# Altium schematic symbol library Motor_driver.SchLib: 13 symbols
Pins are listed as number, name and electrical type; pins without a type are passive.

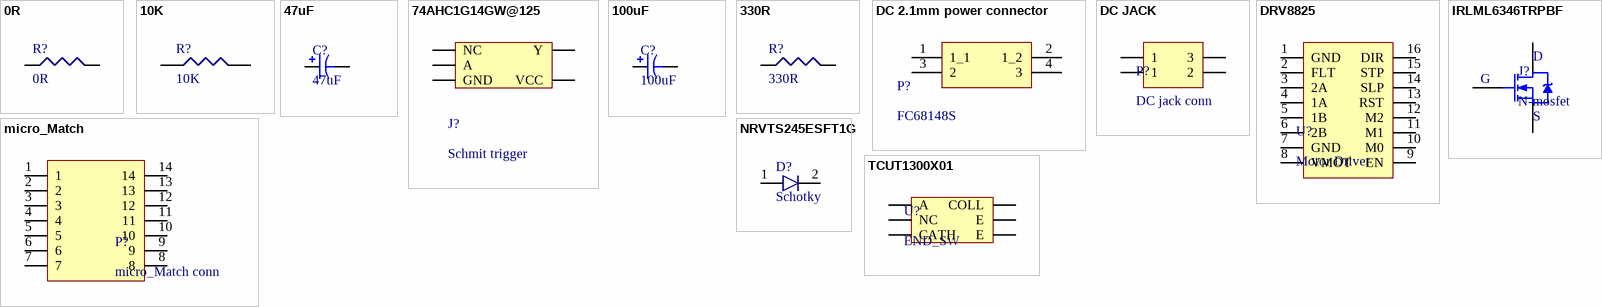
[diagram p0: symbols 0R to TCUT1300X01]

## 0R
designator R?
RES SMD 0.0OHM JUMPER 1/20W 0201; Manufacturer: Vishay; Manufacturer Part Number: CRCW02010000Z0ED; Brand: Vishay / Dale; Resistance: 0 Ohms; Unit Weight: 0.000006 oz; Product Category: Thick Film Resistors - SMD; RoHS: Details; Case Code - in: 0201; Case Code - mm: 0603; Operating Temperature Range: - 55 C to + 155 C; Series: CRCW; Height: 0.23 mm; Length: 0.6 mm; Package / Case: 0201 (0603 metric); Packaging: Reel; Product: Thick Film Resistors Zero-Ohm; Factory Pack Quantity: 10000; Termination Style: SMD/SMT; Width: 0.3 mm; ComponentLink1URL: https://datasheet.ciiva.com/2471/crcw0201e3-2471712.pdf; ComponentLink1Description: https://datasheet.ciiva.com/2471/crcw0201e3-2471712.pdf; ComponentLink2URL: https://datasheet.ciiva.com/2471/crcw0201e3-2471713.pdf; ComponentLink2Description: https://datasheet.ciiva.com/2471/crcw0201e3-2471713.pdf; ComponentLink3URL: https://datasheet.ciiva.com/7841/1719906-7841430.pdf; ComponentLink3Description: https://datasheet.ciiva.com/7841/1719906-7841430.pdf; ComponentLink4URL: https://datasheet.ciiva.com/7841/1719906-7841431.pdf; ComponentLink4Description: https://datasheet.ciiva.com/7841/1719906-7841431.pdf; ComponentLink5URL: https://datasheet.ciiva.com/22665/1847332-22665688.pdf; ComponentLink5Description: https://datasheet.ciiva.com/22665/1847332-22665688.pdf; ComponentLink6URL: https://datasheet.ciiva.com/16757/70202042-16757849.pdf; ComponentLink6Description: https://datasheet.ciiva.com/16757/70202042-16757849.pdf; ComponentLink7URL: https://datasheet.ciiva.com/16436/crcw0201e3-16436237.pdf; ComponentLink7Description: https://datasheet.ciiva.com/16436/crcw0201e3-16436237.pdf; ComponentLink8URL: https://datasheet.ciiva.com/2471/crcw0201e3-2471711.pdf; ComponentLink8Description: https://datasheet.ciiva.com/2471/crcw0201e3-2471711.pdf
footprint 0603res
pins: 1, 2

## 10K
designator R?
RES SMD 10K OHM 1% 1/20W 0201; Manufacturer: Vishay; Manufacturer Part Number: CRCW020110K0FNED; Brand: Vishay / Dale; Resistance: 10 kOhms; Power Rating: 50 mW; Temperature Coefficient: 200 PPM / K; Voltage Rating: 30 V; Unit Weight: 0.000006 oz; Supplier 1: Farnell; Stock 1: 2600; Pricing 1: 10=0.0338, 100=0.0237, 500=0.0124, 2500=0.0092, 5000=0.0076 (EUR); Product Category: Thick Film Resistors; RoHS: True; Tolerance: 1 %; Case Code - in: 0201; Case Code - mm: 0603; Operating Temperature Range: - 55 C to + 155 C; Series: CRCW; Height: 0.23 mm; Length: 0.6 mm; Package / Case: 0201 (0603 metric); Packaging: Reel; Product: Thick Film Resistors SMD; Termination Style: SMD/SMT; Width: 0.3 mm; ComponentLink1URL: https://datasheet.ciiva.com/2474/crcw0201e3-2474818.pdf; ComponentLink1Description: https://datasheet.ciiva.com/2474/crcw0201e3-2474818.pdf; ComponentLink2URL: https://datasheet.ciiva.com/2474/crcw0201e3-2474819.pdf; ComponentLink2Description: https://datasheet.ciiva.com/2474/crcw0201e3-2474819.pdf; ComponentLink3URL: https://datasheet.ciiva.com/2474/crcw0201e3-2474820.pdf; ComponentLink3Description: https://datasheet.ciiva.com/2474/crcw0201e3-2474820.pdf; ComponentLink4URL: https://datasheet.ciiva.com/22692/1719906-22692709.pdf; ComponentLink4Description: https://datasheet.ciiva.com/22692/1719906-22692709.pdf; ComponentLink5URL: https://datasheet.ciiva.com/7983/1719906-7983319.pdf; ComponentLink5Description: https://datasheet.ciiva.com/7983/1719906-7983319.pdf; ComponentLink6URL: https://datasheet.ciiva.com/22868/70202042-22868839.pdf; ComponentLink6Description: https://datasheet.ciiva.com/22868/70202042-22868839.pdf; ComponentLink7URL: https://datasheet.ciiva.com/7983/1719906-7983320.pdf; ComponentLink7Description: https://datasheet.ciiva.com/7983/1719906-7983320.pdf; ComponentLink8URL: https://datasheet.ciiva.com/16436/dcrcwe3-16436222.pdf; ComponentLink8Description: https://datasheet.ciiva.com/16436/dcrcwe3-16436222.pdf; Supplier Part Number 1: 2140192
footprint 0603res
pins: 1, 2

## 47uF
designator C?
Cap Aluminum Lytic 47uF 63V 20% (8 X 10.2mm) SMD 250mA 2000h 105C T/R; Manufacturer: Panasonic; Manufacturer Part Number: EEE-FK1J470P; Product Range: PANASONIC - FK Series; Capacitance: 47µF; AE Capacitor Case: Radial Can - SMD; Lifetime @ Temperature: 2000 hours @ 105°C; SVHC: No SVHC (16-Dec-2013); Impedance: 0.65ohm; Power Factor: 0.08; Power Factor Frequency: 120Hz; Ripple Current Frequency: 100kHz; Ripple Current Temperature: 105°C; Supplier 1: Farnell; Stock 1: 25710; Pricing 1: 1=0.701, 10=0.389, 50=0.28, 100=0.234, 200=0.2 (EUR); Voltage Rating: 63V; Diameter: 8mm; Height: 10.2mm; Ripple Current AC: 250mA; Packaging: Cut Tape; Operating Temperature Min: -55°C; Operating Temperature Max: 105°C; Capacitance Tolerance: ± 20%; Capacitance Tolerance ±: ± 20%; Capacitor Case Style: Radial Can - SMD; External Length / Height: 10.2mm; Operating Temperature Range: -55°C to +105°C; Operating life Time: 2000h; Series: FK; Tolerance +: 20%; Tolerance -: 20%; Voltage Rating V DC: 63V; Capacitor Terminals: SMD; Life Time @ Temperature: 2000 hours @ 105°C; Operating Lifetime: 2000h; Package / Case: F; ComponentLink1URL: https://datasheet.ciiva.com/11778/0900766b80e4e8b0-11778793.pdf; ComponentLink1Description: https://datasheet.ciiva.com/11778/0900766b80e4e8b0-11778793.pdf; ComponentLink2URL: https://datasheet.ciiva.com/29313/443502-da-01-en-smd-elko-vfk-f-47-uf-63v-29313697.pdf; ComponentLink2Description: https://datasheet.ciiva.com/29313/443502-da-01-en-smd-elko-vfk-f-47-uf-63v-29313697.pdf; ComponentLink3URL: https://datasheet.ciiva.com/11673/aba0000ce120-11673877.pdf; ComponentLink3Description: https://datasheet.ciiva.com/11673/aba0000ce120-11673877.pdf; ComponentLink4URL: https://datasheet.ciiva.com/24071/aba0000ce120-24071976.pdf; ComponentLink4Description: https://datasheet.ciiva.com/24071/aba0000ce120-24071976.pdf; ComponentLink5URL: https://datasheet.ciiva.com/30065/aba0000ce120-30065320.pdf; ComponentLink5Description: https://datasheet.ciiva.com/30065/aba0000ce120-30065320.pdf; ComponentLink6URL: https://datasheet.ciiva.com/2985/aba0000ce120-2985450.pdf; ComponentLink6Description: https://datasheet.ciiva.com/2985/aba0000ce120-2985450.pdf; ComponentLink7URL: https://datasheet.ciiva.com/5949/1676921-5949754.pdf; ComponentLink7Description: https://datasheet.ciiva.com/5949/1676921-5949754.pdf; ComponentLink8URL: https://datasheet.ciiva.com/46376/1676921-46376459.pdf; ComponentLink8Description: https://datasheet.ciiva.com/46376/1676921-46376459.pdf; ComponentLink9URL: https://datasheet.ciiva.com/14609/70258115-14609918.pdf; ComponentLink9Description: https://datasheet.ciiva.com/14609/70258115-14609918.pdf; ComponentLink10URL: https://datasheet.ciiva.com/46388/1676921-46388414.pdf; ComponentLink10Description: https://datasheet.ciiva.com/46388/1676921-46388414.pdf; Supplier Part Number 1: 9696032
footprint EEEFK1J470P
pins: 1, 2

## 74AHC1G14GW@125
designator J?, comment Schmit trigger
74AHC1G14GW@125; Manufacturer: NXP Semiconductors; Supplier 1: Farnell; Manufacturer Part Number: 74AHC1G14GW@125; Stock 1: 10993; Pricing 1: 5=0.153, 50=0.108, 100=0.062, 250=0.059, 500=0.043 (EUR); Supplier Part Number 1: 1085241
footprint SOT65P212X112-5N (SOT23, 5-Leads, Body 2.05x2.13mm, Pitch 0.65mm, IPC Medium Density)
pins: 1 NC, 2 A, 3 GND, 4 Y, 5 VCC

## 100uF
designator C?
Cap Aluminum Lytic 100uF 50V 20% (8 X 10.2mm) SMD 350mA 2000h 105C Automotive T/R; Manufacturer: Panasonic; Manufacturer Part Number: EEE-FK1H101P; Type: V-Chip; Capacitance: 100 µF; Lifetime@Temperature: 2000 Hrs @ 105°C; Impedance: 0.34 Ω; Supplier 1: Farnell; Stock 1: 0; Series: FK; Rated Voltage: 50 V; Dimension: Ø 8 x 10.2 mm; Operating Temp Range: -55 to +105 °C; Ripple Current: 350 mA; Operating Temp-Max: 105 °C; Supplier Part Number 1: 9695958
footprint EEEFK1J470P
pins: 1, 2

## 330R
designator R?
RES SMD 330 OHM 0.1% 1/10W 0603; Manufacturer: Panasonic Electronic Components; Manufacturer Part Number: ERA-3AEB331V; Power (Watts): 0.1W, 1/10W; Temperature Coefficient: ±25ppm/°C; Supplier 1: Digi-Key; RoHS: RoHS Compliant; Category: Resistors; Stock 1: 125000; Pricing 1: 5000=0.03717, 10000=0.03469, 25000=0.03422 (USD); Packaging: Tape & Reel (TR); Part Status: Active; Tolerance: ±0.1%; Composition: Thin Film; Features: Automotive AEC-Q200; Operating Temperature: -55°C ~ 155°C; Package / Case: 0603 (1608 Metric); Supplier Device Package: 0603; Size / Dimension: 0.063" L x 0.032" W (1.60mm x 0.80mm); Height - Seated (Max): 0.022" (0.55mm); Failure Rate: -; ComponentLink1URL: https://industrial.panasonic.com/cdbs/www-data/pdf/RDM0000/AOA0000C307.pdf; ComponentLink1Description: https://industrial.panasonic.com/cdbs/www-data/pdf/RDM0000/AOA0000C307.pdf; Supplier Part Number 1: P330DBTR-ND
footprint 0603res
pins: 1, 2

## DC 2.1mm power connector
designator P?, comment FC68148S
DC 2.1mm connector; Manufacturer: Cliff; Gender: Jack; Current Rating: 2A; Connector Mounting: Surface Mount; Barrel Outer Diameter: 6.4mm; Voltage Rating: 12V; SVHC: No SVHC (17-Dec-2015); Supplier 1: Farnell; Manufacturer Part Number: FC68148S; Stock 1: 0; Pin Diameter: 2.1mm; Barrel Length: -; Contact Termination Type: Surface Mount; Barrel Inner Diameter: -; Product Range: -; ComponentLink1URL: http://www.farnell.com/datasheets/1864271.pdf; ComponentLink1Description: http://www.farnell.com/datasheets/1864271.pdf; Supplier Part Number 1: 1889309
footprint DC power connector
pins: 1 1_1, 2 1_2, 3 2, 4 3

## DC JACK
designator P?, comment DC jack conn
DC Power Connectors WR-DC PwrJk CtrPnSMT RtAngld W/4 Sldg Pad; Manufacturer: Wurth Electronics; Manufacturer Part Number: 694108106102; Inside Contact Diameter: 2.5 mm; Outside Contact Diameter: 6.4 mm; Current Rating: 5 A; Voltage Rating: 24 V; Mounting Angle: Right; Center Pin Length: 7.85 mm; Connector Type: DC Power Jack; Insulation Resistance: 100 MOhms; Supplier 1: Farnell; Stock 1: 211; Pricing 1: 1=1.52, 50=1.44, 100=1.36, 250=1.33, 500=1.31, 1000=1.28 (EUR); Product Category: DC Power Connectors; RoHS: True; Product: Jacks; Termination Style: SMD/SMT; Brand: Wurth Electronics; Color: Black; Contact Gender: Female; Contact Material: Copper Alloy; Contact Plating: Tin; Flammability Rating: UL 94 V-0; Housing Material: Polyamide (PA); Operating Temperature Range: - 40 C to + 85 C; Packaging: Reel; Series: WR-DC; Factory Pack Quantity: 250; Supplier Part Number 1: 2472152
footprint SOP4
pins: 1, 1, 2, 3

## DRV8825
designator U?, comment Motor Driver
footprint DIP16
footprint DIP16
pins: 1 GND, 2 FLT, 3 2A, 4 1A, 5 1B, 6 2B, 7 GND, 8 VMOT, 9 EN, 10 M0, 11 M1, 12 M2, 13 RST, 14 SLP, 15 STP, 16 DIR

## IRLML6346TRPBF
designator J?, comment N-mosfet
INFINEON         IRLML6346TRPBF.             MOSFET Transistor, N Channel, 3.4 A, 30 V, 0.046 ohm, 4.5 V, 800 mV; FET Type: MOSFET N-Channel, Metal Oxide; FET Feature: Standard; Drain to Source Voltage (Vdss): 30V; Current - Continuous Drain (Id) @ 25°C: 3.4A (Ta); Rds On (Max) @ Id, Vgs: 63 mOhm @ 3.4A, 4.5V; Vgs(th) (Max) @ Id: 1.1V @ 10µA; Gate Charge (Qg) @ Vgs: 2.9nC @ 4.5V; Input Capacitance (Ciss) @ Vds: 270pF @ 24V; Power - Max: 1.3W; Supplier 1: Farnell; Manufacturer: Infineon; Manufacturer Part Number: IRLML6346TRPBF; Stock 1: 11546; Pricing 1: 5=0.242, 25=0.176, 100=0.11, 250=0.0975, 500=0.0849, 1000=0.0724, 5000=0.0617 (EUR); Category: Discrete Semiconductor Products; Family: Transistors - FETs, MOSFETs - Single; Series: HEXFET®; Packaging: Tape & Reel (TR); Part Status: Active; Operating Temperature: -55°C ~ 150°C (TJ); Mounting Type: Surface Mount; Package / Case: TO-236-3, SC-59, SOT-23-3; Supplier Device Package: Micro3™/SOT-23; Supplier Part Number 1: 1857300
footprint SOT_Nmos
pins: 1 G, 2 S, 3 D

## micro_Match
designator P?, comment micro_Match conn
AMP FROM TE CONNECTIVITY         1-2178711-4             Wire-To-Board Connector, Micro-MaTch Value-Line Series, 14 Contacts, Receptacle, 1.27 mm; Manufacturer: TE Connectivity AMP; Number of Contacts: 14; Pitch: 1.27mm; Body Orientation: Straight; Supplier 1: Farnell; Manufacturer Part Number: 1-2178711-4; Stock 1: 904; Pricing 1: 1=1.24, 25=1.15, 70=1.06, 200=0.977, 450=0.89 (EUR); Number of Rows: 2; Type: Board to Board; Mounting Type: Surface Mount; Termination Method: Solder; Series: Micro-MaTch; Contact Material: Copper Alloy; Supplier Part Number 1: 2473362
footprint micro_Match
pins: 1, 2, 3, 4, 5, 6, 7, 8, 9, 10, 11, 12, 13, 14

## NRVTS245ESFT1G
designator D?, comment Schotky
ON SEMICONDUCTOR         NRVTS245ESFT1G             Schottky Rectifier, Single, 45 V, 2 A, SOD-123, 2 Pins, 650 mV; If - Forward Current: 2 A; Vrrm - Repetitive Reverse Voltage: 45 V; Vf - Forward Voltage: 650 mV; Ifsm - Forward Surge Current: 50 A; Ir - Reverse Current: 75 uA; Supplier 1: Farnell; Manufacturer: ON Semiconductor; Manufacturer Part Number: NRVTS245ESFT1G; Stock 1: 14714; Pricing 1: 5=0.195, 25=0.14, 100=0.0844, 250=0.0724, 500=0.0605, 1000=0.0485, 5000=0.0455 (EUR); Product Category: Schottky Diodes & Rectifiers; RoHS: True; Product: Schottky Rectifiers; Mounting Style: SMD/SMT; Package / Case: SOD-123FL-2; Configuration: Single; Technology: Si; Maximum Operating Temperature: + 175 C; Minimum Operating Temperature: - 65 C; Packaging: Reel; Brand: ON Semiconductor; Factory Pack Quantity: 3000; Vr - Reverse Voltage: 45 V; Supplier Part Number 1: 2473409
footprint Schotky
pins: 1, 2

## TCUT1300X01
designator U?, comment END_SW
SENSOR OPTO SLOT 3MM TRANS SMD; Manufacturer: Vishay Semiconductors; Manufacturer Part Number: TCUT1300X01; Collector Current (DC): 0.02 A; Collector-Emitter Voltage: 20 V; DELETED: Compliant; Fall Time: 150000 ns; Forward Current: 25 mA; Number of  Elements: 2; Output Device: Phototransistor; Power Dissipation: 0.075 W; Rad Hardened: No; Reverse Breakdown Voltage: 5 V; Slit Width: 0.3 mm; Supplier 1: Farnell; Stock 1: 2041; Pricing 1: 1=1.17, 50=1.02, 100=0.884, 500=0.744, 1000=0.571 (EUR); Collector Current (DC) (Max): 0.02 A; Gap Width: 3 mm; Mounting: Surface Mount; Operating Temp Range: -40C to 85C; Operating Temperature Classification: Industrial; Package Type: SMD; Packaging: Tape and Reel; Pin Count: 6; Rise Time: 150000 ns; Type: Transmissive; ComponentLink1URL: https://datasheet.ciiva.com/6858/tcut1300-6858353.pdf; ComponentLink1Description: https://datasheet.ciiva.com/6858/tcut1300-6858353.pdf; ComponentLink2URL: https://datasheet.ciiva.com/4423/tcut1300-96295-4423538.pdf; ComponentLink2Description: https://datasheet.ciiva.com/4423/tcut1300-96295-4423538.pdf; ComponentLink3URL: https://datasheet.ciiva.com/11772/0900766b80ed1f8e-11772595.pdf; ComponentLink3Description: https://datasheet.ciiva.com/11772/0900766b80ed1f8e-11772595.pdf; ComponentLink4URL: https://datasheet.ciiva.com/15117/getdatasheetpartid-248339-15117059.pdf; ComponentLink4Description: https://datasheet.ciiva.com/15117/getdatasheetpartid-248339-15117059.pdf; ComponentLink5URL: https://datasheet.ciiva.com/2823/tcut1300-2823075.pdf; ComponentLink5Description: https://datasheet.ciiva.com/2823/tcut1300-2823075.pdf; ComponentLink6URL: https://datasheet.ciiva.com/2823/tcut1300-2823076.pdf; ComponentLink6Description: https://datasheet.ciiva.com/2823/tcut1300-2823076.pdf; ComponentLink7URL: https://datasheet.ciiva.com/2823/tcut1300-2823077.pdf; ComponentLink7Description: https://datasheet.ciiva.com/2823/tcut1300-2823077.pdf; ComponentLink8URL: https://datasheet.ciiva.com/16493/tcut1300-16493702.pdf; ComponentLink8Description: https://datasheet.ciiva.com/16493/tcut1300-16493702.pdf; ComponentLink9URL: https://datasheet.ciiva.com/26184/tcut1300-26184396.pdf; ComponentLink9Description: https://datasheet.ciiva.com/26184/tcut1300-26184396.pdf; ComponentLink10URL: https://datasheet.ciiva.com/7657/tcut1300-7657886.pdf; ComponentLink10Description: https://datasheet.ciiva.com/7657/tcut1300-7657886.pdf; Supplier Part Number 1: 2251270
footprint END_switch
pins: 1 A, 2 NC, 3 CATH, 4 E, 5 E, 6 COLL